# EAGLE library part LT1228 (library IC)
Linear Technology 100MHz Current feedback Amplifier with DC Gain Control
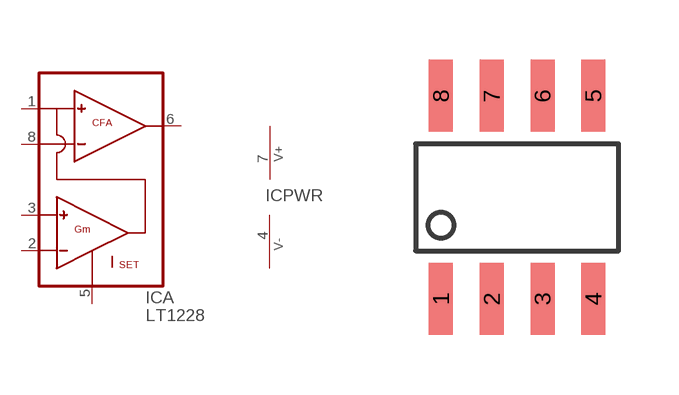
[diagram p130: symbol with the pads of SOIC8; footprint SOIC8]

Designator prefix IC; gates A=LT1228 PWR=PWR_V+_V-

## LT1228  [SOIC8]
1  A:IN+1  in
2  A:IN-  in
3  A:IN+  in
4  PWR:V-  pwr
5  A:ISET  in
6  A:OUT  out
7  PWR:V+  pwr
8  A:GAIN  in

## Footprint SOIC8 (pad centres in mm)
8 pin SOIC 150-mil package
smd 0.6 x 1.8: 1 -1.905,-2.54; 2 -0.635,-2.54; 3 0.635,-2.54; 4 1.905,-2.54; 5 1.905,2.54; 6 0.635,2.54; 7 -0.635,2.54; 8 -1.905,2.54